# EAGLE library part E22-900T30S (library bear_altimeters_lib)
E22-900T30S is a wireless serial port module (UART) based on SEMTECH's SX1262 RF chip. Check availability <https://pricing.snapeda.com/parts/E22-900T30S/EBYTE/view-part?ref=eda>
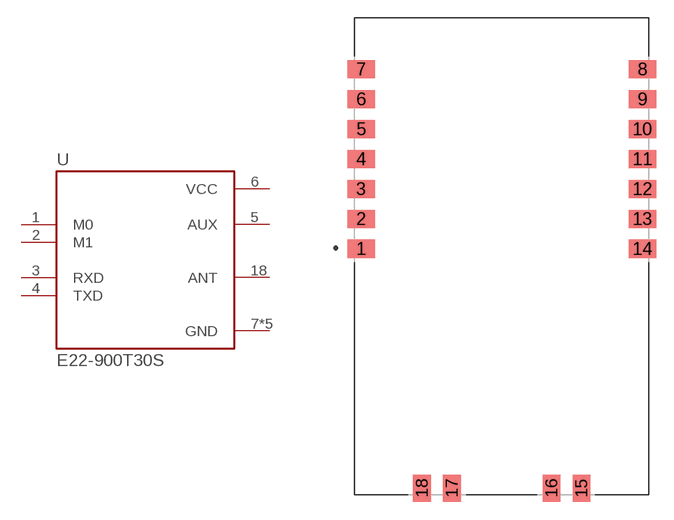
[diagram p9: symbol with the pads of XCVR_E22-900T30S; footprint XCVR_E22-900T30S]

Designator prefix U

## E22-900T30S (AVAILABILITY: Not in stock; DESCRIPTION: E22-900T30S is a wireless serial port module (UART) based on SEMTECH's SX1262 RF chip.; MF: EBYTE; MP: E22-900T30S; PACKAGE: Package; PRICE: None)  [XCVR_E22-900T30S]
1  M0  in
2  M1  in
3  RXD  in
4  TXD  out
5  AUX  out
6  VCC  pwr
7  GND  pwr
9  GND  pwr
15  GND  pwr
16  GND  pwr
17  GND  pwr
18  ANT  out

## Footprint XCVR_E22-900T30S (pad centres in mm)
smd 2.34 x 1.53: 1 -11.935,0.63; 2 -11.935,3.17; 3 -11.935,5.71; 4 -11.935,8.25; 5 -11.935,10.79; 6 -11.935,13.33; 7 -11.935,15.87; 8 11.935,15.87; 9 11.935,13.33; 10 11.935,10.79; 11 11.935,8.25; 12 11.935,5.71; 13 11.935,3.17; 14 11.935,0.63
smd 1.51 x 2.31: 15 6.77,-19.7; 16 4.23,-19.7; 17 -4.23,-19.7; 18 -6.77,-19.7